# EAGLE library part AD5666(QUAD16-DAC) (library QuantumOptics)
AD5666aruz-2, Analog Devices, quad serial 16-bit DAC, 14-TSSOP, http://www.analog.com/UploadedFiles/Data_Sheets/354265261AD5666_prb.pdf
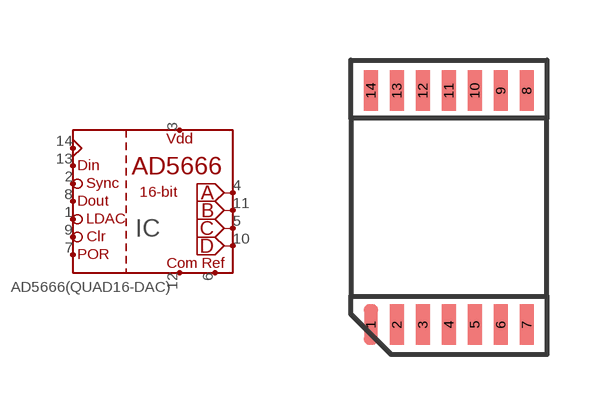
[diagram p54: symbol with the pads of TSSOP-14; footprint TSSOP-14]

Designator prefix IC

## AD5666(QUAD16-DAC)  [TSSOP-14]
1  ~LDAC  in
2  ~SYNC  in
3  VDD
4  OUT-A  out
5  OUT-C  out
6  VREF
7  POR  in
8  SDO  out
9  ~CLR  in
10  OUT-D  out
11  OUT-B  out
12  COM
13  DIN  in
14  SCLK  in

## Footprint TSSOP-14 (pad centres in mm)
TSSOP-14, pins 0.65mm c-c spacing, nominal 6.4mm rows.
smd 0.356 x 1.016: 1 0,-5.85; 2 0.65,-5.85; 3 1.3,-5.85; 4 1.95,-5.85; 5 2.6,-5.85; 6 3.25,-5.85; 7 3.9,-5.85; 8 3.9,0; 9 3.25,0; 10 2.6,0; 11 1.95,0; 12 1.3,0; 13 0.65,0; 14 0,0